# Altium schematic symbol library Power.SchLib: 1 symbol
Pins are listed as number, name and electrical type; pins without a type are passive.

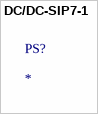
[diagram p0: symbol DC/DC-SIP7-1]

## DC/DC-SIP7-1
designator PS?
DC/DC-module SIP7 single output